# EAGLE library part ADUM1412 (library FaBo-Isolator)
Quad-Channel Digital Isolators
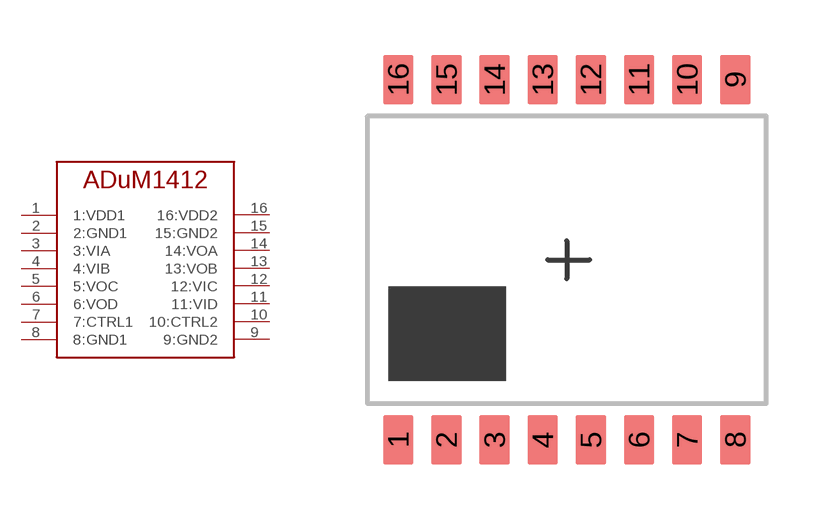
[diagram p0: symbol with the pads of SOIC-16; footprint SOIC-16]

Designator prefix -

## ADUM1412  [SOIC-16]
1  1:VDD1
2  2:GND1
3  3:VIA
4  4:VIB
5  5:VOC
6  6:VOD
7  7:CTRL1
8  8:GND1
9  9:GND2
10  10:CTRL2
11  11:VID
12  12:VIC
13  13:VOB
14  14:VOA
15  15:GND2
16  16:VDD2

## Footprint SOIC-16 (pad centres in mm)
smd 0.8 x 1.3: 1 -4.445,-4.75; 2 -3.175,-4.75; 3 -1.905,-4.75; 4 -0.635,-4.75; 5 0.635,-4.75; 6 1.905,-4.75; 7 3.175,-4.75; 8 4.445,-4.75; 9 4.445,4.75; 10 3.175,4.75; 11 1.905,4.75; 12 0.635,4.75; 13 -0.635,4.75; 14 -1.905,4.75; 15 -3.175,4.75; 16 -4.445,4.75